# EAGLE library part 5499206-8 (library 5499206-8)
HEADER, STRAIGHT, 34WAY Source: Datasheet
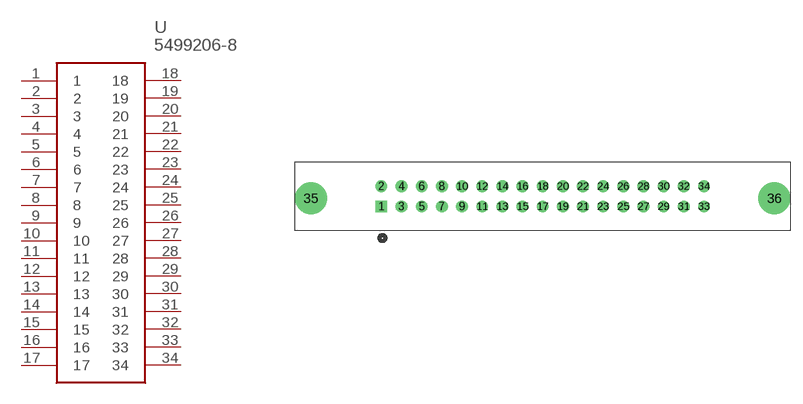
[diagram p0: symbol with the pads of TYCO_5499206-8; footprint TYCO_5499206-8]

Designator prefix U

## 5499206-8 (Arrow_Part_Number: 5499206-8; Arrow_Price-Stock: https://www.arrow.com/en/products/5499206-8/te-connectivity; Description: HEADER, STRAIGHT, 34WAY; Height: mm; Manufacturer_Name: TE Connectivity; Manufacturer_Part_Number: 5499206-8; Mouser_Part_Number: 571-5499206-8; Mouser_Price-Stock: https://www.mouser.co.uk/ProductDetail/TE-Connectivity/5499206-8?qs=ZDXmSm13591MHa56RR9%2Fpg%3D%3D)  [TYCO_5499206-8]
1  1
2  2
3  3
4  4
5  5
6  6
7  7
8  8
9  9
10  10
11  11
12  12
13  13
14  14
15  15
16  16
17  17
18  18
19  19
20  20
21  21
22  22
23  23
24  24
25  25
26  26
27  27
28  28
29  29
30  30
31  31
32  32
33  33
34  34

## Footprint TYCO_5499206-8 (pad centres in mm)
TYCO_5499206-8
drill 0.965 pad 1.448 square: 1 -40.64,-2.54
drill 0.965 pad 1.448: 2 -40.64,0; 3 -38.1,-2.54; 4 -38.1,0; 5 -35.56,-2.54; 6 -35.56,0; 7 -33.02,-2.54; 8 -33.02,0; 9 -30.48,-2.54; 10 -30.48,0; 11 -27.94,-2.54; 12 -27.94,0; 13 -25.4,-2.54; 14 -25.4,0; 15 -22.86,-2.54; 16 -22.86,0; 17 -20.32,-2.54; 18 -20.32,0; 19 -17.78,-2.54; 20 -17.78,0; 21 -15.24,-2.54; 22 -15.24,0; 23 -12.7,-2.54; 24 -12.7,0; 25 -10.16,-2.54; 26 -10.16,0; 27 -7.62,-2.54; 28 -7.62,0; 29 -5.08,-2.54; 30 -5.08,0; 31 -2.54,-2.54; 32 -2.54,0; 33 0,-2.54; 34 0,0
drill 2.692 pad 4.039: 35 -49.53,-1.524; 36 8.89,-1.524